# Altium footprint library PCB封装.PcbLib: 59 footprints (part 1 of 4)
Each footprint in its own frame and in the unit in brackets; x right, y up, seen from the top. Pads: shape width x height; smd on the part's side, far side on the other; paste and mask are expansions set on the pad; w line width, h text height; cw(c..) or ccw(c..) is an arc to the next point about the centre after c.
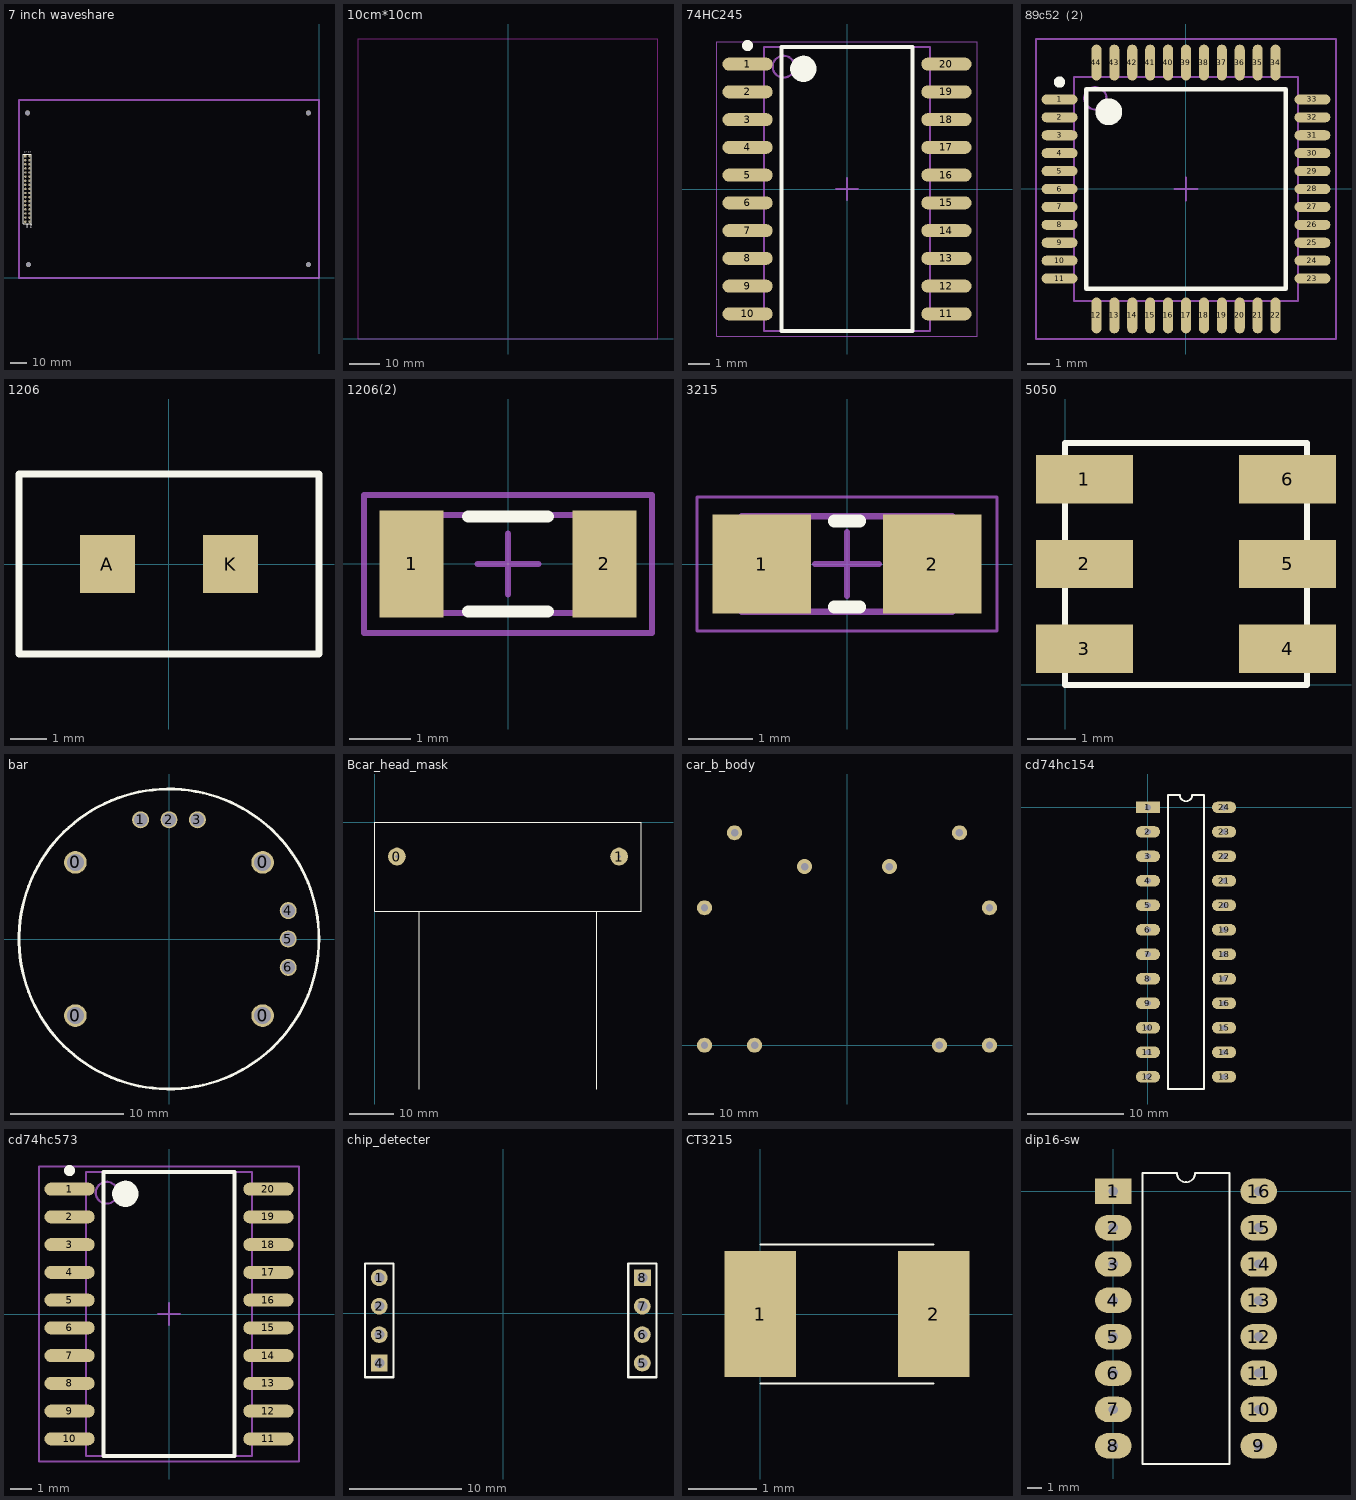
[diagram p0: the footprints below, top view; thin cyan lines are the x and y axes]

## 7 inch waveshare [mm]
pads (38):
  round 3 hole 3: 0(-180.73,102.36) 0(-180.22,8.26) 0(-6.6,8.29) 0(-6.6,102.36)
  rect 1.5x1.5 hole 0.9: 1(-182.118,75.565)
  round 1.5 hole 0.9: 2(-179.578,75.565) 3(-182.118,73.025) 4(-179.578,73.025) 5(-182.118,70.485) 6(-179.578,70.485) 7(-182.118,67.945) 8(-179.578,67.945) 9(-182.118,65.405) 10(-179.578,65.405) 11(-182.118,62.865) 12(-179.578,62.865) 13(-182.118,60.325) 14(-179.578,60.325) 15(-182.118,57.785) 16(-179.578,57.785) 17(-182.118,55.245) 18(-179.578,55.245) 19(-182.118,52.705) 20(-179.578,52.705) 21(-182.118,50.165) 22(-179.578,50.165) 23(-182.118,47.625) 24(-179.578,47.625) 25(-182.118,45.085) 26(-179.578,45.085) 27(-182.118,42.545) 28(-179.578,42.545) 29(-182.118,40.005) 30(-179.578,40.005) 31(-182.118,37.465) 32(-179.578,37.465) 33(-182.118,34.925) 34(-179.578,34.925)
Top Overlay:
  lines w0.2: -183.388,33.65 -178.308,33.65 ; -183.388,33.655 -183.388,76.835 -178.308,76.835 -178.308,33.655
  text "2" at -180.086,78.613 h1.27
  text "1" at -182.626,78.613 h1.27
  text "33" at -181.483,33.401 h1.27
  text "34" at -178.943,33.401 h1.27
Mechanical 15:
  lines w1: -186.06,0 -186.06,110.36 0,110.36 0,0 -186.06,0
3D body: height 7.58, standoff -2.94, extent -180.848,33.655 -178.308,36.195
3D body: height 7.58, standoff -2.94, extent -183.388,33.655 -180.848,36.195
3D body: height 7.58, standoff -2.94, extent -180.848,36.195 -178.308,38.735
3D body: height 7.58, standoff -2.94, extent -180.848,38.735 -178.308,41.275
3D body: height 7.58, standoff -2.94, extent -180.848,41.275 -178.308,43.815
3D body: height 7.58, standoff -2.94, extent -180.848,43.815 -178.308,46.355
3D body: height 7.58, standoff -2.94, extent -183.388,36.195 -180.848,38.735
3D body: height 7.58, standoff -2.94, extent -183.388,38.735 -180.848,41.275
3D body: height 7.58, standoff -2.94, extent -183.388,41.275 -180.848,43.815
3D body: height 7.58, standoff -2.94, extent -183.388,43.815 -180.848,46.355
3D body: height 7.58, standoff -2.94, extent -180.848,46.355 -178.308,48.895
3D body: height 7.58, standoff -2.94, extent -180.848,48.895 -178.308,51.435
3D body: height 7.58, standoff -2.94, extent -180.848,51.435 -178.308,53.975
3D body: height 7.58, standoff -2.94, extent -180.848,53.975 -178.308,56.515
3D body: height 7.58, standoff -2.94, extent -183.388,46.355 -180.848,48.895
3D body: height 7.58, standoff -2.94, extent -183.388,48.895 -180.848,51.435
3D body: height 7.58, standoff -2.94, extent -183.388,51.435 -180.848,53.975
3D body: height 7.58, standoff -2.94, extent -183.388,53.975 -180.848,56.515
3D body: height 7.58, standoff -2.94, extent -180.848,56.515 -178.308,59.055
3D body: height 7.58, standoff -2.94, extent -180.848,59.055 -178.308,61.595
3D body: height 7.58, standoff -2.94, extent -180.848,61.595 -178.308,64.135
3D body: height 7.58, standoff -2.94, extent -180.848,64.135 -178.308,66.675
3D body: height 7.58, standoff -2.94, extent -183.388,56.515 -180.848,59.055
3D body: height 7.58, standoff -2.94, extent -183.388,59.055 -180.848,61.595
3D body: height 7.58, standoff -2.94, extent -183.388,61.595 -180.848,64.135
3D body: height 7.58, standoff -2.94, extent -183.388,64.135 -180.848,66.675
3D body: height 7.58, standoff -2.94, extent -180.848,66.675 -178.308,69.215
3D body: height 7.58, standoff -2.94, extent -180.848,69.215 -178.308,71.755
3D body: height 7.58, standoff -2.94, extent -180.848,71.755 -178.308,74.295
3D body: height 7.58, standoff -2.94, extent -180.848,74.295 -178.308,76.835
3D body: height 7.58, standoff -2.94, extent -183.388,66.675 -180.848,69.215
3D body: height 7.58, standoff -2.94, extent -183.388,69.215 -180.848,71.755
3D body: height 7.58, standoff -2.94, extent -183.388,71.755 -180.848,74.295
3D body: height 7.58, standoff -2.94, extent -183.388,74.295 -180.848,76.835

## 10cm*10cm [mm]
Keep-Out Layer:
  lines w0.254: -50,0 -50,100 50,100 50,0 -50,0

## 74HC245 [mm] "SOIC, 20-Leads, Body 12.80x7.50mm, Pitch 1.27mm, IPC Medium Density"
height 2.65
pads (20):
  oval 2.3x0.6 smd: 1(-4.55,5.715) 2(-4.55,4.445) 3(-4.55,3.175) 4(-4.55,1.905) 5(-4.55,0.635) 6(-4.55,-0.635) 7(-4.55,-1.905) 8(-4.55,-3.175) 9(-4.55,-4.445) 10(-4.55,-5.715) 11(4.55,-5.715) 12(4.55,-4.445) 13(4.55,-3.175) 14(4.55,-1.905) 15(4.55,-0.635) 16(4.55,0.635) 17(4.55,1.905) 18(4.55,3.175) 19(4.55,4.445) 20(4.55,5.715)
Top Overlay:
  circle w0.6: c-2,5.5 r0.3
  circle w0.25: c-4.55,6.565 r0.125
  lines w0.2: -3,-6.5 3,-6.5 3,6.5 -3,6.5 -3,-6.5
Mechanical 13:
  circle w0.1: c-2.9,5.6 r0.5
  lines w0.1: -3.8,-6.5 3.8,-6.5 3.8,6.5 -3.8,6.5 -3.8,-6.5
Mechanical 15:
  lines w0.05: -5.95,-6.75 5.95,-6.75 5.95,6.75 -5.95,6.75 -5.95,-6.75
  lines w0.1: -0.5,0 0.5,0 ; 0,-0.5 0,0.5
3D body: height 2.65, standoff 0.25, extent -3.8,-6.5 3.8,6.5

## 89c52（2） [mm]
pads (44):
  oval 1.6x0.45 smd: 1(-5.65,4) 2(-5.65,3.2) 3(-5.65,2.4) 4(-5.65,1.6) 5(-5.65,0.8) 6(-5.65,0) 7(-5.65,-0.8) 8(-5.65,-1.6) 9(-5.65,-2.4) 10(-5.65,-3.2) 11(-5.65,-4) 23(5.65,-4) 24(5.65,-3.2) 25(5.65,-2.4) 26(5.65,-1.6) 27(5.65,-0.8) 28(5.65,0) 29(5.65,0.8) 30(5.65,1.6) 31(5.65,2.4) 32(5.65,3.2) 33(5.65,4)
  oval 0.45x1.6 smd: 12(-4,-5.65) 13(-3.2,-5.65) 14(-2.4,-5.65) 15(-1.6,-5.65) 16(-0.8,-5.65) 17(0,-5.65) 18(0.8,-5.65) 19(1.6,-5.65) 20(2.4,-5.65) 21(3.2,-5.65) 22(4,-5.65) 34(4,5.65) 35(3.2,5.65) 36(2.4,5.65) 37(1.6,5.65) 38(0.8,5.65) 39(0,5.65) 40(-0.8,5.65) 41(-1.6,5.65) 42(-2.4,5.65) 43(-3.2,5.65) 44(-4,5.65)
Top Overlay:
  circle w0.6: c-3.45,3.45 r0.3
  circle w0.25: c-5.65,4.775 r0.125
  lines w0.2: -4.45,-4.45 4.45,-4.45 4.45,4.45 -4.45,4.45 -4.45,-4.45
Mechanical 13:
  circle w0.1: c-4.05,4.05 r0.5
  lines w0.1: -5,-5 5,-5 5,5 -5,5 -5,-5
Mechanical 15:
  lines w0.1: -0.5,0 0.5,0 ; 0,-0.5 0,0.5 ; -6.7,-6.7 6.7,-6.7 6.7,6.7 -6.7,6.7 -6.7,-6.7
3D body: height 1.6, standoff 0.1, extent -5,-5 5,5

## 1206 [mm]
pads (2):
  rect 1.52x1.6 smd: A(-1.71,0) K(1.71,0)
Top Overlay:
  lines w0.2: -4.17,-2.5 4.17,-2.5 4.17,2.5 -4.17,2.5 -4.17,0 -4.17,-2.5

## 1206(2) [mm]
pads (2):
  rect 1.05x1.75 smd: 1(-1.575,0) 2(1.575,0)
Top Overlay:
  lines w0.2: -0.65,-0.775 0.65,-0.775 ; -0.65,0.775 0.65,0.775
Mechanical 13:
  lines w0.1: -1.6,-0.8 1.6,-0.8 1.6,0.8 -1.6,0.8 -1.6,-0.8
Mechanical 15:
  lines w0.1: -0.5,0 0.5,0 ; 0,-0.5 0,0.5 ; -2.35,-1.125 2.35,-1.125 2.35,1.125 -2.35,1.125 -2.35,-1.125
3D body: height 1.6, standoff 0, extent -1.6,-0.8 1.6,0.8

## 3215 [mm]
height 0.75
pads (2):
  rect 1.54x1.55 smd: 1(-1.335,0) 2(1.335,0)
Top Overlay:
  lines w0.2: -0.2,-0.675 0.2,-0.675 ; -0.2,0.675 0.2,0.675
Mechanical 13:
  lines w0.1: -1.65,-0.75 -1.65,0.75 1.65,0.75 1.65,-0.75 -1.65,-0.75
Mechanical 15:
  lines w0.05: -2.35,-1.05 -2.35,1.05 2.35,1.05 2.35,-1.05 -2.35,-1.05
  lines w0.1: -0.5,0 0.5,0 ; 0,-0.5 0,0.5
3D body: height 0.75, standoff 0, extent -0.62,-0.75 0.62,0.75
3D body: height 0.75, standoff 0, extent -1.65,-0.75 -0.62,0.75
3D body: height 0.75, standoff 0, extent 0.62,-0.75 1.65,0.75

## 5050 [mm]
pads (6):
  rect 2x1 smd: 1(0.4,4.25) 2(0.4,2.5) 3(0.4,0.75) 4(4.6,0.75) 5(4.6,2.5) 6(4.6,4.25)
Top Overlay:
  lines w0.127: 0,0 5,0 5,5 0,5 0,0

## bar [mm]
height 25
pads (10):
  round 2 hole 1.5: 0(-8.25,-6.75) 0(-8.25,6.75) 0(8.25,-6.75) 0(8.25,6.75)
  round 1.5 hole 1.2: 1(-2.5,10.5) 2(0,10.5) 3(2.5,10.5) 4(10.5,2.5) 5(10.5,0) 6(10.5,-2.5)
Top Overlay:
  circle w0.245: c0,0 r13.213

## Bcar_head_mask [mm]
pads (2):
  round 4 hole 0.762: 0(5,-7.7) 1(55,-7.7)
Top Overlay:
  lines w0.254: 10,-60 10,-20 ; 50,-60 50,-20 ; 0,-20 0,0 60,0 60,-20 0,-20
Bottom Overlay:
  lines w0.254: 30,-23.241 30,7.493

## car_b_body [mm]
pads (10):
  round 6 hole 3: ""(-57,0) ""(-57,55) ""(-45,85) ""(-37,0) ""(-17,71.5) ""(17,71.5) ""(37,0) ""(45,85) ""(57,0) ""(57,55)
Bottom Overlay:
  lines w0.254: -57,0 57,0 ; -57,55 57,55 ; -45,85 45,85 ; -17,71.5 17,71.5 ; 0,0 0,85

## cd74hc154 [mm]
pads (24):
  rect 2.5x1.2 hole 0.6: 1(0,0)
  oval 2.5x1.2 hole 0.6: 2(0,-2.54) 3(0,-5.08) 4(0,-7.62) 5(0,-10.16) 6(0,-12.7) 7(0,-15.24) 8(0,-17.78) 9(0,-20.32) 10(0,-22.86) 11(0,-25.4) 12(0,-27.94) 13(7.9,-27.94) 14(7.9,-25.4) 15(7.9,-22.86) 16(7.9,-20.32) 17(7.9,-17.78) 18(7.9,-15.24) 19(7.9,-12.7) 20(7.9,-10.16) 21(7.9,-7.62) 22(7.9,-5.08) 23(7.9,-2.54) 24(7.9,0)
Top Overlay:
  lines w0.2: 2.085,-29.21 5.815,-29.21 5.815,1.27 4.585,1.27 cw(c3.95,1.27) 3.315,1.27 2.085,1.27 2.085,-29.21

## cd74hc573 [mm]
pads (20):
  oval 2.3x0.6 smd: 1(-4.55,5.715) 2(-4.55,4.445) 3(-4.55,3.175) 4(-4.55,1.905) 5(-4.55,0.635) 6(-4.55,-0.635) 7(-4.55,-1.905) 8(-4.55,-3.175) 9(-4.55,-4.445) 10(-4.55,-5.715) 11(4.55,-5.715) 12(4.55,-4.445) 13(4.55,-3.175) 14(4.55,-1.905) 15(4.55,-0.635) 16(4.55,0.635) 17(4.55,1.905) 18(4.55,3.175) 19(4.55,4.445) 20(4.55,5.715)
Top Overlay:
  circle w0.25: c-4.55,6.565 r0.125
  circle w0.6: c-2,5.5 r0.3
  lines w0.2: -3,-6.5 -3,6.5 3,6.5 3,-6.5 -3,-6.5
Mechanical 13:
  circle w0.1: c-2.85,5.55 r0.5
  lines w0.1: -3.8,-6.5 -3.8,6.5 3.8,6.5 3.8,-6.5 -3.8,-6.5
Mechanical 15:
  lines w0.1: -0.5,0 0.5,0 ; 0,-0.5 0,0.5 ; -5.95,-6.75 -5.95,6.75 5.95,6.75 5.95,-6.75 -5.95,-6.75
3D body: height 2.65, standoff 0.1, extent -3.8,-6.5 3.8,6.5

## chip_detecter [mm]
pads (8):
  round 1.5 hole 0.9: 1(-11.049,3.175) 2(-11.049,0.635) 3(-11.049,-1.905) 5(12.446,-4.445) 6(12.446,-1.905) 7(12.446,0.635)
  rect 1.5x1.5 hole 0.9: 4(-11.049,-4.445) 8(12.446,3.175)
Top Overlay:
  lines w0.2: -12.319,-5.715 -9.779,-5.715 -9.779,4.445 -12.319,4.445 -12.319,-5.715 ; 11.176,-5.715 11.176,4.445 13.716,4.445 13.716,-5.715 11.176,-5.715
Bottom Overlay:
  lines w0.635: 13.716,10.795 12.954,11.557 -10.414,11.557 -12.954,9.017 -12.954,-9.652 -10.922,-11.684 12.446,-11.684 13.843,-10.287 13.843,10.795

## CT3215 [mm]
pads (2):
  rect 1.05x1.85 smd: 1(0,0) 2(2.54,0)
Top Overlay:
  lines w0.025: 0,-1.016 2.54,-1.016 ; 0,1.016 2.54,1.016

## dip16-sw [mil]
pads (16):
  rect 100x70 hole 25: 1(0,0)
  oval 100x70 hole 25: 2(0,-100) 3(0,-200) 4(0,-300) 5(0,-400) 6(0,-500) 7(0,-600) 8(0,-700) 9(400,-700) 10(400,-600) 11(400,-500) 12(400,-400) 13(400,-300) 14(400,-200) 15(400,-100) 16(400,0)
Top Overlay:
  lines w5: 80,-750 80,50 175,50 ccw(c200,50) 225,50 320,50 320,-750 80,-750